# EAGLE library part DEC2501 (library dec-con)
Diode Pack (Clamps)
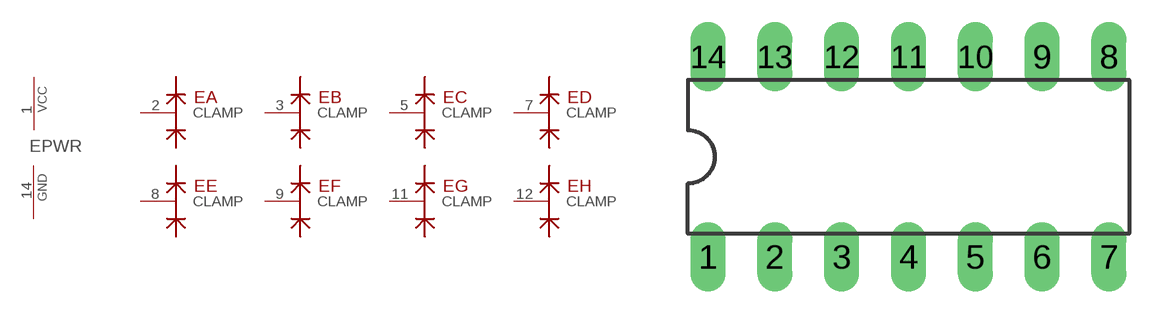
[diagram p61: symbol with the pads of DIL14; footprint DIL14]

Designator prefix E; gates A=CLAMP B=CLAMP C=CLAMP E=CLAMP F=CLAMP G=CLAMP D=CLAMP H=CLAMP PWR=PWRN

## DEC2501  [DIL14]
1  PWR:VCC  pwr
2  A:CLAMP  in
3  B:CLAMP  in
5  C:CLAMP  in
7  D:CLAMP  in
8  E:CLAMP  in
9  F:CLAMP  in
11  G:CLAMP  in
12  H:CLAMP  in
14  PWR:GND  pwr

## Footprint DIL14 (pad centres in mm)
Dual In Line Package
drill 0.813 long: 1 -7.62,-3.81; 2 -5.08,-3.81; 3 -2.54,-3.81; 4 0,-3.81; 5 2.54,-3.81; 6 5.08,-3.81; 7 7.62,-3.81; 8 7.62,3.81; 9 5.08,3.81; 10 2.54,3.81; 11 0,3.81; 12 -2.54,3.81; 13 -5.08,3.81; 14 -7.62,3.81